# Altium integrated library Hirose_Coaxial_Connectors.IntLib: 1 symbol
Pins are listed as number, name and electrical type; pins without a type are passive.

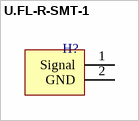
[diagram p0: symbol U.FL-R-SMT-1]

## U.FL-R-SMT-1
designator H?, comment UMC SMD Connector  (value not drawn)
Supplier 1: Digi-Key; Supplier 2: Mouser; Supplier 3: Newark; Supplier Part Number 1: H11891TR-ND; Supplier Part Number 2: 798-UFLRSMT180; Supplier Part Number 3: 50P8856; Comment_1: UMC SMD Connector; Datasheet: http://media.digikey.com/pdf/Data%20Sheets/Hirose%20PDFs/UFL%20Series.pdf
footprint U.FL-R-SMT-1 (SMD UMC Connection.)
pins: 1 Signal, 2 GND (power)